# Altium footprint library PHDR-1X10-TH-M.PcbLib: 1 footprints
Each footprint in its own frame and in the unit in brackets; x right, y up, seen from the top. Pads: shape width x height; smd on the part's side, far side on the other; paste and mask are expansions set on the pad; w line width, h text height; cw(c..) or ccw(c..) is an arc to the next point about the centre after c.
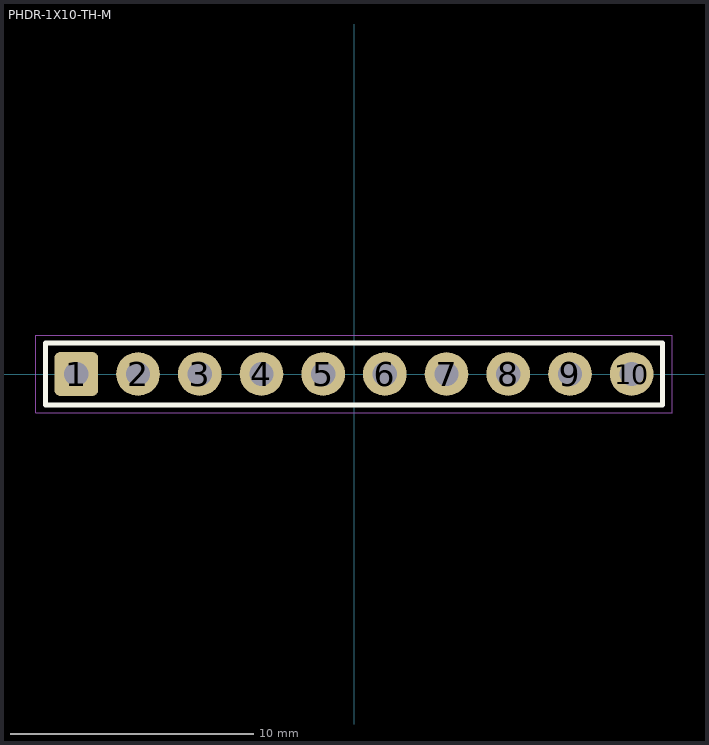
[diagram p0: the footprint, top view; thin cyan lines are the x and y axes]

## PHDR-1X10-TH-M [mm] "Pin Header 1x10 Male TH Pitch 2.54mm"
height 9.5
pads (10):
  rrect25% 1.8x1.8 hole 1: 1(-11.43,0)
  round 1.8 hole 1: 2(-8.89,0) 3(-6.35,0) 4(-3.81,0) 5(-1.27,0) 6(1.27,0) 7(3.81,0) 8(6.35,0) 9(8.89,0) 10(11.43,0)
Top Overlay:
  lines w0.2: -10.16,1.27 -12.7,1.27 ; -12.7,1.27 12.7,1.27 12.7,-1.27 -12.7,-1.27 -12.7,1.27
Top Assembly:
  lines w0.1: -12.7,-1.27 -12.7,1.27 12.7,1.27 12.7,-1.27 -12.7,-1.27
Top Courtyard:
  lines w0.05: -13.1,-1.6 13.1,-1.6 13.1,1.6 -13.1,1.6 -13.1,-1.6
Top Designator:
  text ".Designator" at -7.498,-0.5 h1.5
3D body "Pin Header 1x10 TH Pitch 2.54mm.stp": height 9.5, standoff -3.2, extent -12.7,-1.27 12.7,1.27